# Altium schematic symbol library TSSH-110-01-L-D.SchLib: 1 symbol
Pins are listed as number, name and electrical type; pins without a type are passive.

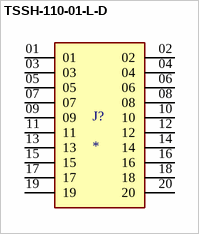
[diagram p0: symbol TSSH-110-01-L-D]

## TSSH-110-01-L-D
designator J?
MP: TSSH-110-01-L-D; Package: None; Price: None; Value: *; Availability: Unavailable
footprint SAMTEC_TSSH-110-01-L-D
pins: 01, 02, 03, 04, 05, 06, 07, 08, 09, 10, 11, 12, 13, 14, 15, 16, 17, 18, 19, 20